# EAGLE library part S11PIN (library jst_eh)
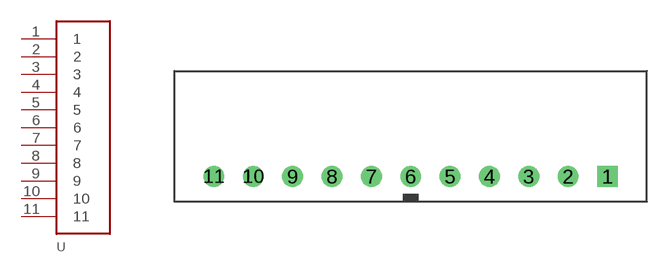
[diagram p15: symbol with the pads of S11B-EH; footprint S11B-EH]

Designator prefix -

## S11PIN  [S11B-EH]
1  1
2  2
3  3
4  4
5  5
6  6
7  7
8  8
9  9
10  10
11  11

## Footprint S11B-EH (pad centres in mm)
drill 0.813 square: 1 12.5,0
drill 0.813: 2 10,0; 3 7.5,0; 4 5,0; 5 2.5,0; 6 0,0; 7 -2.5,0; 8 -5,0; 9 -7.5,0; 10 -10,0; 11 -12.5,0